# Altium footprint library PcbLib1.PcbLib: 22 footprints (part 2 of 2)
Each footprint in its own frame and in the unit in brackets; x right, y up, seen from the top. Pads: shape width x height; smd on the part's side, far side on the other; paste and mask are expansions set on the pad; w line width, h text height; cw(c..) or ccw(c..) is an arc to the next point about the centre after c.
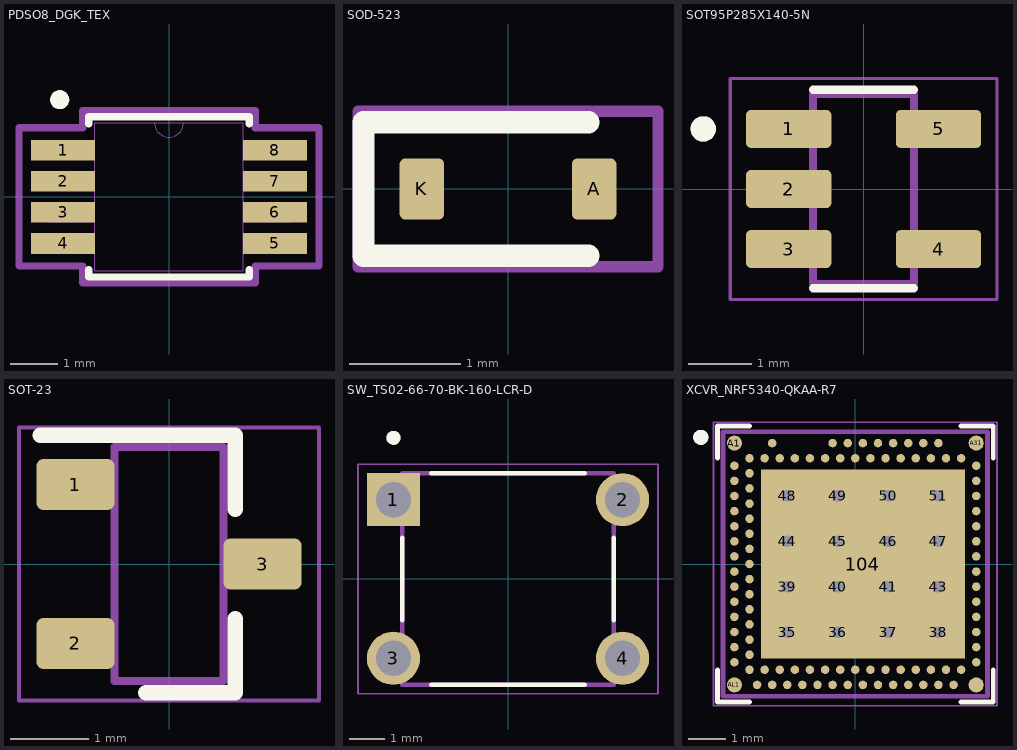
[diagram p1: the footprints below, top view; thin cyan lines are the x and y axes]

## PDSO8_DGK_TEX [mil]
pads (8):
  rect 52.5x17 smd paste+0 mask+0: 1(-87.25,38.39) 2(-87.25,12.8) 3(-87.25,-12.8) 4(-87.25,-38.39) 5(87.25,-38.39) 6(87.25,-12.8) 7(87.25,12.8) 8(87.25,38.39)
Top Overlay:
  circle w7.87: c-90,80 r3.94
  lines w6: -66,-59.99 -66,-66 66,-66 66,-59.99 ; -66,59.99 -66,66 66,66 66,59.99
Mechanical 13:
  lines w0: -12,61 ccw(c0,61) 12,61
  lines w1: -99.5,-45.89 -61,-45.89 -61,-30.89 -99.5,-30.89 -99.5,-45.89 ; -99.5,-20.3 -61,-20.3 -61,-5.3 -99.5,-5.3 -99.5,-20.3 ; -99.5,5.3 -61,5.3 -61,20.3 -99.5,20.3 -99.5,5.3 ; -99.5,30.89 -61,30.89 -61,45.89 -99.5,45.89 -99.5,30.89 ; -61,-61 -61,61 61,61 61,-61 -61,-61 ; 61,-45.89 99.5,-45.89 99.5,-30.89 61,-30.89 61,-45.89 ; 61,-20.3 99.5,-20.3 99.5,-5.3 61,-5.3 61,-20.3 ; 61,5.3 99.5,5.3 99.5,20.3 61,20.3 61,5.3 ; 61,30.89 99.5,30.89 99.5,45.89 61,45.89 61,30.89
Mechanical 15:
  lines w6: -123.5,-56.89 -71,-56.89 -71,-71 71,-71 71,-56.89 123.5,-56.89 123.5,56.89 71,56.89 71,71 -71,71 -71,56.89 -123.5,56.89 -123.5,-56.89
3D body "PDSO8_DGK_TEX.step": height 43.11, standoff 0, extent -99.49,-60.98 99.49,60.98

## SOD-523 [mm] "SMD"
pads (2):
  rrect25% 0.4x0.55 smd: A(0.775,0) K(-0.775,0)
Top Overlay:
  lines w0.2: 0.725,-0.6 -1.3,-0.6 -1.3,0.6 0.725,0.6
Mechanical 15:
  lines w0.1: -1.35,-0.7 -1.35,0.7 1.35,0.7 1.35,-0.7 -1.35,-0.7
3D body "p38_SOD-523.stp": height 0.7, standoff 0, extent -0.85,-0.425 0.85,0.425

## SOT95P285X140-5N [mm]
height 1.4
pads (5):
  rrect25% 1.35x0.6 smd: 1(-1.185,0.95) 2(-1.185,0) 3(-1.185,-0.95) 4(1.185,-0.95) 5(1.185,0.95)
Top Overlay:
  circle w0.2: c-2.535,0.95 r0.1
  lines w0.127: -0.8,-1.57 0.8,-1.57 ; -0.8,1.57 0.8,1.57
Mechanical 13:
  circle w0.2: c-2.535,0.95 r0.1
  lines w0.127: -0.8,-1.5 0.8,-1.5 0.8,1.5 -0.8,1.5 -0.8,-1.5
Mechanical 15:
  lines w0.05: -2.11,-1.75 2.11,-1.75 2.11,1.75 -2.11,1.75 -2.11,-1.75
3D body "step_temp.STEP": height 1.4, standoff 0, extent -1.425,-1.5 1.425,1.5

## SOT-23 [mm] "SOT23, 3-Leads, IPC Medium Density, TO-236"
height 1.1
pads (3):
  rrect25% 1x0.65 smd: 1(-1.2,1.02) 2(-1.2,-1.02) 3(1.2,0)
Top Overlay:
  lines w0.2: -1.65,1.65 0.85,1.65 0.85,0.7 ; -0.3,-1.65 0.85,-1.65 0.85,-0.7
Mechanical 13:
  lines w0.1: -0.7,-1.5 -0.7,1.5 0.7,1.5 0.7,-1.5 -0.7,-1.5
Mechanical 15:
  lines w0.05: -1.925,-1.75 -1.925,1.75 1.925,1.75 1.925,-1.75 -1.925,-1.75
3D body "p200_SOT-23.stp": height 1.3, standoff 0, extent -1.3,-1.52 1.3,1.52

## SW_TS02-66-70-BK-160-LCR-D [mm]
pads (4):
  rect 1.508x1.508 / inner round 1.508 / far side rect 1.508x1.508 hole 1: 1(-3.25,2.25)
  round 1.508 hole 1: 2(3.25,2.25) 3(-3.25,-2.25) 4(3.25,-2.25)
Top Overlay:
  circle w0.2: c-3.25,4.004 r0.1
  lines w0.127: -3,-1.176 -3,1.176 ; -2.176,-3 2.176,-3 ; -2.176,3 2.176,3 ; 3,-1.176 3,1.176
Mechanical 13:
  circle w0.2: c-3.25,4.004 r0.1
  lines w0.127: -3,-3 3,-3 3,3 -3,3 -3,-3
Mechanical 15:
  lines w0.05: -4.254,-3.254 -4.254,3.254 4.254,3.254 4.254,-3.254 -4.254,-3.254
3D body "CUI_DEVICES_TS02-66-70-BK-160-LCR-D.step": height 7, standoff -3.5, extent -3.95,-3 3.95,3

## XCVR_NRF5340-QKAA-R7 [mm]
height 0.85
pads (115):
  round 0.61 hole 0.305: 35(-1.8,-1.8) 36(-0.467,-1.8) 37(0.867,-1.8) 38(2.2,-1.8) 39(-1.8,-0.6) 40(-0.467,-0.6) 41(0.867,-0.6) 43(2.2,-0.6) 44(-1.8,0.6) 45(-0.467,0.6) 46(0.867,0.6) 47(2.2,0.6) 48(-1.8,1.8) 49(-0.467,1.8) 50(0.867,1.8) 51(2.2,1.8)
  rect 5.4x5 smd paste-4: 104(0.2,0)
  round 0.4 smd paste-0.006: A1(-3.2,3.2) A31(3.2,3.2) AL1(-3.2,-3.2) AL31(3.2,-3.2)
  round 0.225 smd paste-0.006: A5(-2.2,3.2) A13(-0.6,3.2) A15(-0.2,3.2) A17(0.2,3.2) A19(0.6,3.2) A21(1,3.2) A23(1.4,3.2) A25(1.8,3.2) A27(2.2,3.2) AA1(-3.2,-1) AA31(3.2,-1) AB2(-2.8,-1.2) AC1(-3.2,-1.4) AC31(3.2,-1.4) AD2(-2.8,-1.6) AE1(-3.2,-1.8) AE31(3.2,-1.8) AF2(-2.8,-2) AG1(-3.2,-2.2) AG31(3.2,-2.2) AH2(-2.8,-2.4) AJ1(-3.2,-2.6) AJ31(3.2,-2.6) AK2(-2.8,-2.8) AK4(-2.4,-2.8) AK6(-2,-2.8) AK8(-1.6,-2.8) AK10(-1.2,-2.8) AK12(-0.8,-2.8) AK14(-0.4,-2.8) AK16(0,-2.8) AK18(0.4,-2.8) AK20(0.8,-2.8) AK22(1.2,-2.8) AK24(1.6,-2.8) AK26(2,-2.8) AK28(2.4,-2.8) AK30(2.8,-2.8) AL3(-2.6,-3.2) AL5(-2.2,-3.2) AL7(-1.8,-3.2) AL9(-1.4,-3.2) AL11(-1,-3.2) AL13(-0.6,-3.2) AL15(-0.2,-3.2) AL17(0.2,-3.2) AL19(0.6,-3.2) AL21(1,-3.2) AL23(1.4,-3.2) AL25(1.8,-3.2) AL27(2.2,-3.2) AL29(2.6,-3.2) B2(-2.8,2.8) B4(-2.4,2.8) B6(-2,2.8) B8(-1.6,2.8) B10(-1.2,2.8) B12(-0.8,2.8) B14(-0.4,2.8) B16(0,2.8) B18(0.4,2.8) B20(0.8,2.8) B22(1.2,2.8) B24(1.6,2.8) B26(2,2.8) B28(2.4,2.8) B30(2.8,2.8) C1(-3.2,2.6) C31(3.2,2.6) D2(-2.8,2.4) E1(-3.2,2.2) E31(3.2,2.2) F2(-2.8,2) G1(-3.2,1.8) G31(3.2,1.8) H2(-2.8,1.6) J1(-3.2,1.4) J31(3.2,1.4) K2(-2.8,1.2) L1(-3.2,1) L31(3.2,1) M2(-2.8,0.8) N1(-3.2,0.6) N31(3.2,0.6) P2(-2.8,0.4) R1(-3.2,0.2) R31(3.2,0.2) T2(-2.8,0) U1(-3.2,-0.2) U31(3.2,-0.2) V2(-2.8,-0.4) W1(-3.2,-0.6) W31(3.2,-0.6) Y2(-2.8,-0.8)
Top Overlay:
  circle w0.2: c-4.089,3.353 r0.1
  lines w0.127: -3.65,-2.8 -3.65,-3.65 -2.8,-3.65 ; 2.8,-3.65 3.65,-3.65 3.65,-2.8 ; 2.8,3.65 3.65,3.65 3.65,2.8 ; -3.65,3.65 -3.65,2.8 -3.65,3.65 ; -3.65,3.65 -2.8,3.65 -3.65,3.65
Top Paste:
  drawing of 16 lines, arcs and shapes, not listed
Mechanical 13:
  circle w0.2: c-4.089,3.353 r0.1
  lines w0.127: -3.5,-3.5 -3.5,3.5 3.5,3.5 3.5,-3.5 -3.5,-3.5
Mechanical 15:
  lines w0.05: -3.75,-3.75 3.75,-3.75 3.75,3.75 -3.75,3.75 -3.75,-3.75
3D body "step_temp.STEP": height 0.85, standoff 0, extent -3.5,-3.5 3.5,3.5